# Altium footprint library TAUV-Lib.PcbLib: 56 footprints (part 3 of 4)
Each footprint in its own frame and in the unit in brackets; x right, y up, seen from the top. Pads: shape width x height; smd on the part's side, far side on the other; paste and mask are expansions set on the pad; w line width, h text height; cw(c..) or ccw(c..) is an arc to the next point about the centre after c.
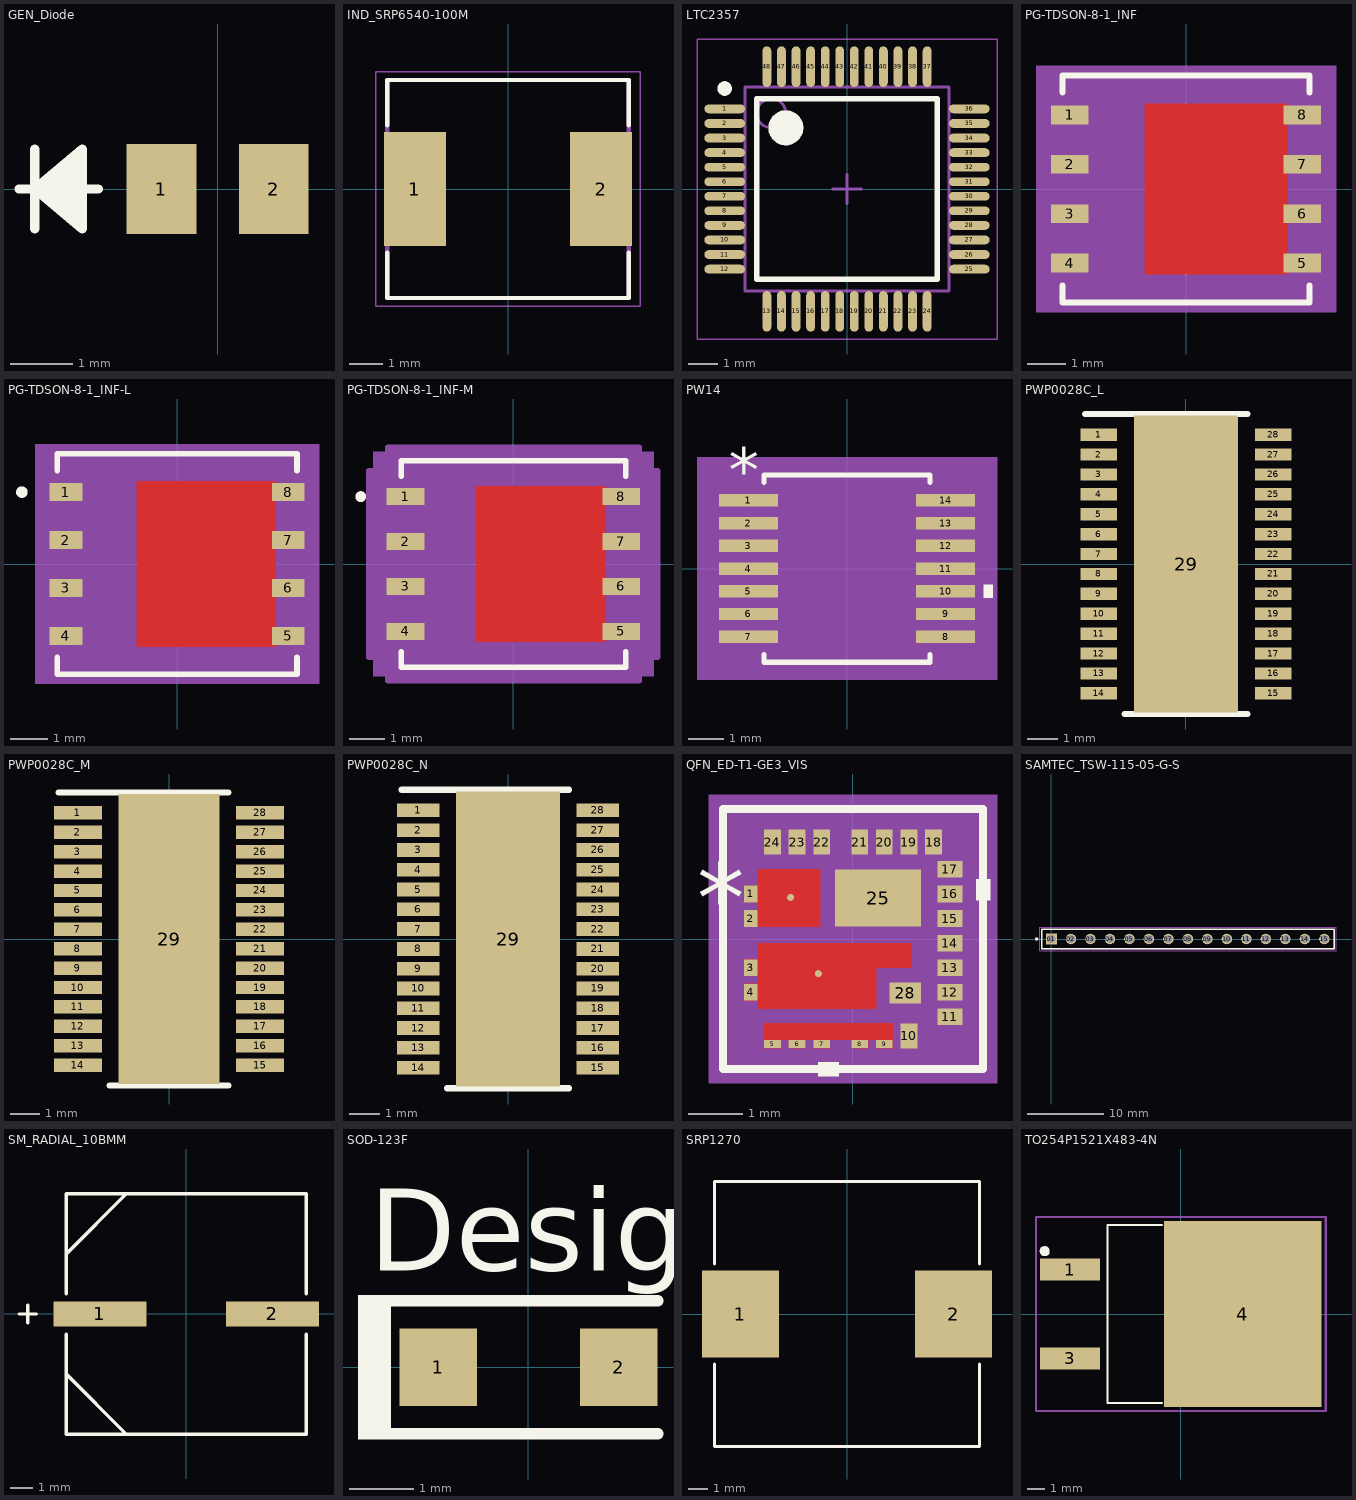
[diagram p2: the footprints below, top view; thin cyan lines are the x and y axes]

## GEN_Diode [mil]
pads (2):
  rect 44x57 smd: 1(-35.5,0) 2(35.5,0)
Top Overlay:
  lines w6: -125.5,0 -75.5,0 ; -115.5,-25 -115.5,25 ; -85.5,-20 -115.5,0 ; -85.5,-15 -115.5,0 ; -85.5,-10 -115.5,0 ; -85.5,-5 -115.5,0 ; -85.5,5 -115.5,0 ; -85.5,10 -115.5,0 ; -85.5,15 -115.5,0 ; -85.5,20 -115.5,0 ; -115.5,0 -85.5,25 -85.5,-25 -115.5,0
3D body: height 10, standoff 0, extent 0,0 10,10

## IND_SRP6540-100M [mm]
pads (2):
  rect 1.85x3.4 smd: 1(-2.775,0) 2(2.775,0)
Top Overlay:
  lines w0.127: -3.6,-1.9 -3.6,-3.25 3.6,-3.25 3.6,-1.9 ; -3.6,1.9 -3.6,3.25 3.6,3.25 3.6,1.9
Mechanical 4:
  lines w0.127: -3.6,-3.25 -3.6,3.25 ; -3.6,-3.25 3.6,-3.25 ; -3.6,-3.25 -3.6,3.25 ; -3.6,-3.25 3.6,-3.25 ; -3.6,3.25 3.6,3.25 ; -3.6,3.25 3.6,3.25 ; 3.6,-3.25 3.6,3.25 ; 3.6,-3.25 3.6,3.25
Mechanical 16:
  lines w0.05: -3.95,-3.5 -3.95,3.5 3.95,3.5 3.95,-3.5 -3.95,-3.5
3D body "SRP6540.stp": height 3.97, standoff -0.02, extent -3.594,-3.251 3.594,3.251

## LTC2357 [mm] "TSQFP, 48-Leads, Body 7.00x7.00mm, Pitch 0.50mm, IPC Medium Density"
height 1.6
pads (48):
  oval 1.4x0.3 smd: 1(-4.2,2.75) 2(-4.2,2.25) 3(-4.2,1.75) 4(-4.2,1.25) 5(-4.2,0.75) 6(-4.2,0.25) 7(-4.2,-0.25) 8(-4.2,-0.75) 9(-4.2,-1.25) 10(-4.2,-1.75) 11(-4.2,-2.25) 12(-4.2,-2.75) 25(4.2,-2.75) 26(4.2,-2.25) 27(4.2,-1.75) 28(4.2,-1.25) 29(4.2,-0.75) 30(4.2,-0.25) 31(4.2,0.25) 32(4.2,0.75) 33(4.2,1.25) 34(4.2,1.75) 35(4.2,2.25) 36(4.2,2.75)
  oval 0.3x1.4 smd: 13(-2.75,-4.2) 14(-2.25,-4.2) 15(-1.75,-4.2) 16(-1.25,-4.2) 17(-0.75,-4.2) 18(-0.25,-4.2) 19(0.25,-4.2) 20(0.75,-4.2) 21(1.25,-4.2) 22(1.75,-4.2) 23(2.25,-4.2) 24(2.75,-4.2) 37(2.75,4.2) 38(2.25,4.2) 39(1.75,4.2) 40(1.25,4.2) 41(0.75,4.2) 42(0.25,4.2) 43(-0.25,4.2) 44(-0.75,4.2) 45(-1.25,4.2) 46(-1.75,4.2) 47(-2.25,4.2) 48(-2.75,4.2)
Top Overlay:
  circle w0.6: c-2.1,2.1 r0.3
  circle w0.25: c-4.2,3.45 r0.125
  lines w0.2: -3.1,-3.1 3.1,-3.1 3.1,3.1 -3.1,3.1 -3.1,-3.1
Mechanical 13:
  circle w0.1: c-2.6,2.6 r0.5
  lines w0.1: -3.5,-3.5 3.5,-3.5 3.5,3.5 -3.5,3.5 -3.5,-3.5
Mechanical 15:
  lines w0.05: -5.15,-5.15 5.15,-5.15 5.15,5.15 -5.15,5.15 -5.15,-5.15
  lines w0.1: -0.5,0 0.5,0 ; 0,-0.5 0,0.5
3D body: height 1.6, standoff 0.05, extent -3.5,-3.5 3.5,3.5

## PG-TDSON-8-1_INF [mil]
pads (8):
  rect 38x19 smd paste+0 mask+0: 1(-118,75) 2(-118,25) 3(-118,-25) 4(-118,-75) 5(118,-75) 6(118,-25) 7(118,25) 8(118,75)
Top Layer:
  region: 103,-86.5 103,86.5 -42,86.5 -42,-86.5
Top Overlay:
  lines w6: -125,-97.6 -125,-115 125,-115 125,-97.6 ; -125,97.6 -125,115 125,115 125,97.6
Top Paste:
  region: 103,-86.5 103,86.5 -42,86.5 -42,-86.5
Top Solder:
  region: 103,-86.5 103,86.5 -42,86.5 -42,-86.5
Mechanical 5:
  region: 152,-125 -152,-125 -152,125 152,125
Mechanical 13:
  lines w0: -12,110 ccw(c0,110) 12,110
  lines w1: -120,-110 120,-110 120,110 -120,110 -120,-110
Mechanical 15:
  region: -130,-102 -147,-102 -147,102 -130,102 -130,120 130,120 130,102 147,102 147,-102 130,-102 130,-120 -130,-120
  lines w6: -147,-102 -147,102 -130,102 -130,120 130,120 130,102 147,102 147,-102 130,-102 130,-120 -130,-120 -130,-102 -147,-102
3D body "PG-TDSON-8-1_INF.step": height 43.11, standoff 0, extent -125,-110 125,110

## PG-TDSON-8-1_INF-L [mil]
pads (8):
  rect 34x19 smd paste+0 mask+0: 1(-116,75) 2(-116,25) 3(-116,-25) 4(-116,-75) 5(116,-75) 6(116,-25) 7(116,25) 8(116,75)
Top Layer:
  region: 103,-86.5 103,86.5 -42,86.5 -42,-86.5
Top Overlay:
  circle w6: c-162,75 r3
  lines w6: -125,-97.6 -125,-115 125,-115 125,-97.6 ; -125,97.6 -125,115 125,115 125,97.6
Top Paste:
  region: 103,-86.5 103,86.5 -42,86.5 -42,-86.5
Top Solder:
  region: 103,-86.5 103,86.5 -42,86.5 -42,-86.5
Mechanical 5:
  region: 148,-125 -148,-125 -148,125 148,125
Mechanical 13:
  circle w0: c-99,75 r3
  lines w0: -12,110 ccw(c0,110) 12,110
  lines w1: -120,-110 120,-110 120,110 -120,110 -120,-110
Mechanical 15:
  region: -124,-100.8 -137,-100.8 -137,100.8 -124,100.8 -124,114 124,114 124,100.8 137,100.8 137,-100.8 124,-100.8 124,-114 -124,-114
  lines w6: -137,-100.8 -137,100.8 -124,100.8 -124,114 124,114 124,100.8 137,100.8 137,-100.8 124,-100.8 124,-114 -124,-114 -124,-100.8 -137,-100.8
3D body "PG-TDSON-8-1_INF.step": height 43.11, standoff 0, extent -125,-110 125,110

## PG-TDSON-8-1_INF-M [mil]
pads (8):
  rect 42x19 smd paste+0 mask+0: 1(-120,75) 2(-120,25) 3(-120,-25) 4(-120,-75) 5(120,-75) 6(120,-25) 7(120,25) 8(120,75)
Top Layer:
  region: 103,-86.5 103,86.5 -42,86.5 -42,-86.5
Top Overlay:
  circle w6: c-170,75 r3
  lines w6: -125,-97.6 -125,-115 125,-115 125,-97.6 ; -125,97.6 -125,115 125,115 125,97.6
Top Paste:
  region: 103,-86.5 103,86.5 -42,86.5 -42,-86.5
Top Solder:
  region: 103,-86.5 103,86.5 -42,86.5 -42,-86.5
Mechanical 5:
  region: 156,-125 -156,-125 -156,125 156,125
Mechanical 13:
  circle w0: c-99,75 r3
  lines w0: -12,110 ccw(c0,110) 12,110
  lines w1: -120,-110 -120,110 120,110 120,-110 -120,-110
Mechanical 15:
  region: -140,-104 -161,-104 -161,104 -140,104 -140,130 140,130 140,104 161,104 161,-104 140,-104 140,-130 -140,-130
  lines w6: -161,-104 -140,-104 -140,-130 140,-130 140,-104 161,-104 161,104 140,104 140,130 -140,130 -140,104 -161,104 -161,-104
3D body "PG-TDSON-8-1_INF.step": height 43.11, standoff 0, extent -125,-110 125,110

## PW14 [mil]
pads (14):
  rect 66x14 smd paste+0 mask+0: 1(-111,76.77) 2(-111,51.18) 3(-111,25.59) 4(-111,0) 5(-111,-25.59) 6(-111,-51.18) 7(-111,-76.77) 8(111,-76.77) 9(111,-51.18) 10(111,-25.59) 11(111,0) 12(111,25.59) 13(111,51.18) 14(111,76.77)
Top Overlay:
  region: 154,-18.09 164,-18.09 164,-33.09 154,-33.09
  lines w6: -93.5,-96.87 -93.5,-105.5 93.5,-105.5 93.5,-96.87 ; -93.5,96.87 -93.5,105.5 93.5,105.5 93.5,96.87
  text "*" at -133.5,85.77 h50
Mechanical 5:
  region: 169,-125.5 -169,-125.5 -169,125.5 169,125.5
Mechanical 13:
  lines w0: -12,100.5 ccw(c0,100.5) 12,100.5
  lines w1: -130,-82.77 -88.5,-82.77 -88.5,-70.77 -130,-70.77 -130,-82.77 ; -130,-57.18 -88.5,-57.18 -88.5,-45.18 -130,-45.18 -130,-57.18 ; -130,-31.59 -88.5,-31.59 -88.5,-19.59 -130,-19.59 -130,-31.59 ; -130,-6 -88.5,-6 -88.5,6 -130,6 -130,-6 ; -130,19.59 -88.5,19.59 -88.5,31.59 -130,31.59 -130,19.59 ; -130,45.18 -88.5,45.18 -88.5,57.18 -130,57.18 -130,45.18 ; -130,70.77 -88.5,70.77 -88.5,82.77 -130,82.77 -130,70.77 ; -88.5,-100.5 -88.5,100.5 88.5,100.5 88.5,-100.5 -88.5,-100.5 ; 88.5,-82.77 130,-82.77 130,-70.77 88.5,-70.77 88.5,-82.77 ; 88.5,-57.18 130,-57.18 130,-45.18 88.5,-45.18 88.5,-57.18 ; 88.5,-31.59 130,-31.59 130,-19.59 88.5,-19.59 88.5,-31.59 ; 88.5,-6 130,-6 130,6 88.5,6 88.5,-6 ; 88.5,19.59 130,19.59 130,31.59 88.5,31.59 88.5,19.59 ; 88.5,45.18 130,45.18 130,57.18 88.5,57.18 88.5,45.18 ; 88.5,70.77 130,70.77 130,82.77 88.5,82.77 88.5,70.77
  text "*" at -86,47.5 h50
Mechanical 15:
  region: -98.5,-94.27 -154,-94.27 -154,93.27 -98.5,93.27 -98.5,110 98.5,110 98.5,93.27 154,93.27 154,-94.27 98.5,-94.27 98.5,-111 -98.5,-111
  lines w6: -154,-93.77 -98.5,-93.77 -98.5,-110.5 98.5,-110.5 98.5,-93.77 115,-93.77 115,93.77 98.5,93.77 98.5,110.5 -98.5,110.5 -98.5,93.77 -154,93.77 -154,-93.77
3D body "PW14.step": height 47.09, standoff 0, extent -129.99,-100.51 130.01,100.52

## PWP0028C_L [mm]
pads (29):
  rect 1.2x0.4 smd paste+0 mask+0: 1(-2.85,4.225) 2(-2.85,3.575) 3(-2.85,2.925) 4(-2.85,2.275) 5(-2.85,1.625) 6(-2.85,0.975) 7(-2.85,0.325) 8(-2.85,-0.325) 9(-2.85,-0.975) 10(-2.85,-1.625) 11(-2.85,-2.275) 12(-2.85,-2.925) 13(-2.85,-3.575) 14(-2.85,-4.225) 15(2.85,-4.225) 16(2.85,-3.575) 17(2.85,-2.925) 18(2.85,-2.275) 19(2.85,-1.625) 20(2.85,-0.975) 21(2.85,-0.325) 22(2.85,0.325) 23(2.85,0.975) 24(2.85,1.625) 25(2.85,2.275) 26(2.85,2.925) 27(2.85,3.575) 28(2.85,4.225)
  rect 3.4x9.7 smd paste-1.7 mask-1.702: 29(0,0)
Top Overlay:
  lines w0.2: -3.3,4.9 2,4.9 ; -2,-4.9 2,-4.9
Top Paste:
  region: -1.549,-2.553 -1.55,-2.544 -1.55,2.544 -1.549,2.553 -1.546,2.561 -1.542,2.569 -1.536,2.576 -1.529,2.582 -1.521,2.586 -1.513,2.589 -1.503,2.59 1.504,2.59 1.513,2.589 1.521,2.586 1.529,2.582 1.536,2.576 1.542,2.569 1.546,2.561 1.549,2.553 1.55,2.544 1.55,-2.544 1.549,-2.553 1.546,-2.561 1.542,-2.569 1.536,-2.576 1.529,-2.582 1.521,-2.586 1.513,-2.589 1.504,-2.59 -1.503,-2.59 -1.513,-2.589 -1.521,-2.586 -1.529,-2.582 -1.536,-2.576 -1.542,-2.569 -1.546,-2.561
Top Solder:
  region: -1.549,-2.553 -1.55,-2.544 -1.55,2.544 -1.549,2.553 -1.546,2.561 -1.542,2.569 -1.536,2.576 -1.529,2.582 -1.521,2.586 -1.513,2.589 -1.503,2.59 1.504,2.59 1.513,2.589 1.521,2.586 1.529,2.582 1.536,2.576 1.542,2.569 1.546,2.561 1.549,2.553 1.55,2.544 1.55,-2.544 1.549,-2.553 1.546,-2.561 1.542,-2.569 1.536,-2.576 1.529,-2.582 1.521,-2.586 1.513,-2.589 1.504,-2.59 -1.503,-2.59 -1.513,-2.589 -1.521,-2.586 -1.529,-2.582 -1.536,-2.576 -1.542,-2.569 -1.546,-2.561
3D body: height 0.25, standoff 0, extent 0,0 0.254,0.254

## PWP0028C_M [mm]
pads (29):
  rect 1.6x0.45 smd paste+0 mask+0: 1(-3.05,4.225) 2(-3.05,3.575) 3(-3.05,2.925) 4(-3.05,2.275) 5(-3.05,1.625) 6(-3.05,0.975) 7(-3.05,0.325) 8(-3.05,-0.325) 9(-3.05,-0.975) 10(-3.05,-1.625) 11(-3.05,-2.275) 12(-3.05,-2.925) 13(-3.05,-3.575) 14(-3.05,-4.225) 15(3.05,-4.225) 16(3.05,-3.575) 17(3.05,-2.925) 18(3.05,-2.275) 19(3.05,-1.625) 20(3.05,-0.975) 21(3.05,-0.325) 22(3.05,0.325) 23(3.05,0.975) 24(3.05,1.625) 25(3.05,2.275) 26(3.05,2.925) 27(3.05,3.575) 28(3.05,4.225)
  rect 3.4x9.7 smd paste-1.7 mask-1.702: 29(0,0)
Top Overlay:
  lines w0.2: -3.7,4.9 2,4.9 ; -2,-4.9 2,-4.9
Top Paste:
  region: -1.549,-2.553 -1.55,-2.544 -1.55,2.544 -1.549,2.553 -1.546,2.561 -1.542,2.569 -1.536,2.576 -1.529,2.582 -1.521,2.586 -1.513,2.589 -1.503,2.59 1.503,2.59 1.513,2.589 1.521,2.586 1.529,2.582 1.536,2.576 1.542,2.569 1.546,2.561 1.549,2.553 1.55,2.544 1.55,-2.544 1.549,-2.553 1.546,-2.561 1.542,-2.569 1.536,-2.576 1.529,-2.582 1.521,-2.586 1.513,-2.589 1.503,-2.59 -1.503,-2.59 -1.513,-2.589 -1.521,-2.586 -1.529,-2.582 -1.536,-2.576 -1.542,-2.569 -1.546,-2.561
Top Solder:
  region: -1.549,-2.553 -1.55,-2.544 -1.55,2.544 -1.549,2.553 -1.546,2.561 -1.542,2.569 -1.536,2.576 -1.529,2.582 -1.521,2.586 -1.513,2.589 -1.503,2.59 1.503,2.59 1.513,2.589 1.521,2.586 1.529,2.582 1.536,2.576 1.542,2.569 1.546,2.561 1.549,2.553 1.55,2.544 1.55,-2.544 1.549,-2.553 1.546,-2.561 1.542,-2.569 1.536,-2.576 1.529,-2.582 1.521,-2.586 1.513,-2.589 1.503,-2.59 -1.503,-2.59 -1.513,-2.589 -1.521,-2.586 -1.529,-2.582 -1.536,-2.576 -1.542,-2.569 -1.546,-2.561
3D body: height 0.25, standoff 0, extent 0,0 0.254,0.254

## PWP0028C_N [mm]
pads (29):
  rect 1.4x0.45 smd paste+0 mask+0: 1(-2.95,4.225) 2(-2.95,3.575) 3(-2.95,2.925) 4(-2.95,2.275) 5(-2.95,1.625) 6(-2.95,0.975) 7(-2.95,0.325) 8(-2.95,-0.325) 9(-2.95,-0.975) 10(-2.95,-1.625) 11(-2.95,-2.275) 12(-2.95,-2.925) 13(-2.95,-3.575) 14(-2.95,-4.225) 15(2.95,-4.225) 16(2.95,-3.575) 17(2.95,-2.925) 18(2.95,-2.275) 19(2.95,-1.625) 20(2.95,-0.975) 21(2.95,-0.325) 22(2.95,0.325) 23(2.95,0.975) 24(2.95,1.625) 25(2.95,2.275) 26(2.95,2.925) 27(2.95,3.575) 28(2.95,4.225)
  rect 3.4x9.7 smd paste-1.7 mask-1.702: 29(0,0)
Top Overlay:
  lines w0.2: -3.5,4.9 2,4.9 ; -2,-4.9 2,-4.9
Top Paste:
  region: -1.549,-2.553 -1.55,-2.544 -1.55,2.544 -1.549,2.553 -1.546,2.561 -1.542,2.569 -1.536,2.576 -1.529,2.582 -1.521,2.586 -1.513,2.589 -1.503,2.59 1.503,2.59 1.513,2.589 1.521,2.586 1.529,2.582 1.536,2.576 1.542,2.569 1.546,2.561 1.549,2.553 1.55,2.544 1.55,-2.544 1.549,-2.553 1.546,-2.561 1.542,-2.569 1.536,-2.576 1.529,-2.582 1.521,-2.586 1.513,-2.589 1.503,-2.59 -1.503,-2.59 -1.513,-2.589 -1.521,-2.586 -1.529,-2.582 -1.536,-2.576 -1.542,-2.569 -1.546,-2.561
Top Solder:
  region: -1.549,-2.553 -1.55,-2.544 -1.55,2.544 -1.549,2.553 -1.546,2.561 -1.542,2.569 -1.536,2.576 -1.529,2.582 -1.521,2.586 -1.513,2.589 -1.503,2.59 1.503,2.59 1.513,2.589 1.521,2.586 1.529,2.582 1.536,2.576 1.542,2.569 1.546,2.561 1.549,2.553 1.55,2.544 1.55,-2.544 1.549,-2.553 1.546,-2.561 1.542,-2.569 1.536,-2.576 1.529,-2.582 1.521,-2.586 1.513,-2.589 1.503,-2.59 -1.503,-2.59 -1.513,-2.589 -1.521,-2.586 -1.529,-2.582 -1.536,-2.576 -1.542,-2.569 -1.546,-2.561
3D body: height 0.25, standoff 0, extent 0,0 0.254,0.254

## QFN_ED-T1-GE3_VIS [mil]
pads (28):
  rect 10x12 smd: 1(-73.74,32.48) 2(-73.74,14.76) 3(-73.74,-20.67) 4(-73.74,-38.39)
  rect 12x6 smd paste+0 mask+0: 5(-58.08,-75.74) 6(-40.36,-75.74) 7(-22.64,-75.74) 8(4.92,-75.74) 9(22.64,-75.74)
  rect 12x18 smd paste-6 mask+0: 10(40.36,-69.88) 18(58.08,69.88) 19(40.36,69.88) 20(22.64,69.88) 21(4.92,69.88) 22(-22.64,69.88) 23(-40.36,69.88) 24(-58.08,69.88)
  rect 18x12 smd paste-6 mask+0: 11(69.88,-56.1) 12(69.88,-38.39) 13(69.88,-20.67) 14(69.88,-2.95) 15(69.88,14.76) 16(69.88,32.48) 17(69.88,50.2)
  rect 62x41.34 smd paste+0 mask+0: 25(18.07,29.53)
  round 5 smd: 26(-45,30) 27(-25,-25)
  rect 22.84x14.96 smd: 28(37.65,-38.98)
Top Layer:
  region: -52.08,-78.74 -64.08,-78.74 -64.08,-60.88 28.64,-60.88 28.64,-78.74 16.64,-78.74 16.64,-72.74 10.92,-72.74 10.92,-78.74 -1.08,-78.74 -1.08,-72.74 -16.64,-72.74 -16.64,-78.74 -28.64,-78.74 -28.64,-72.74 -34.36,-72.74 -34.36,-78.74 -46.36,-78.74 -46.36,-72.74 -52.08,-72.74
  region: -78.74,26.48 -78.74,38.48 -68.74,38.48 -68.74,50.2 -23.46,50.2 -23.46,8.86 -78.74,8.76 -78.74,20.76 -68.74,20.76 -68.74,26.48
  region: 16.89,-50.22 -68.74,-50.22 -68.74,-44.39 -78.74,-44.39 -78.74,-32.39 -68.74,-32.39 -68.74,-26.67 -78.74,-26.67 -78.74,-14.67 -68.74,-14.67 -68.74,-2.97 42.48,-2.97 42.48,-20.89 16.89,-20.89
Top Overlay:
  region: -10.22,-88.88 -25.22,-88.88 -25.22,-98.88 -10.22,-98.88
  region: 88.88,42.93 98.88,42.93 98.88,27.93 88.88,27.93
  lines w6: -93.74,-93.74 93.74,-93.74 93.74,93.74 -93.74,93.74 -93.74,-93.74
  text "*" at -112.5,5 h50
Top Paste:
  region: -68.74,-14.67 -68.74,-2.97 42.48,-2.97 42.48,-20.89 16.89,-20.89 16.89,-50.22 -68.74,-50.22 -68.74,-44.39 -78.74,-44.39 -78.74,-32.39 -68.74,-32.39 -68.74,-26.67 -78.74,-26.67 -78.74,-14.67
  region: -16.64,-78.74 -28.64,-78.74 -28.64,-72.74 -34.36,-72.74 -34.36,-78.74 -46.36,-78.74 -46.36,-72.74 -52.08,-72.74 -52.08,-78.74 -64.08,-78.74 -64.08,-60.88 28.64,-60.88 28.64,-78.74 16.64,-78.74 16.64,-72.74 10.92,-72.74 10.92,-78.74 -1.08,-78.74 -1.08,-72.74 -16.64,-72.74
  region: -78.74,26.48 -78.74,38.48 -68.74,38.48 -68.74,50.2 -23.46,50.2 -23.46,8.86 -78.74,8.76 -78.74,20.76 -68.74,20.76 -68.74,26.48
Top Solder:
  region: -78.74,26.48 -78.74,38.48 -68.74,38.48 -68.74,50.2 -23.46,50.2 -23.46,8.86 -78.74,8.76 -78.74,20.76 -68.74,20.76 -68.74,26.48
  region: 16.89,-50.22 -68.74,-50.22 -68.74,-44.39 -78.74,-44.39 -78.74,-32.39 -68.74,-32.39 -68.74,-26.67 -78.74,-26.67 -78.74,-14.67 -68.74,-14.67 -68.74,-2.97 42.48,-2.97 42.48,-20.89 16.89,-20.89
  region: -64.08,-78.74 -64.08,-60.88 28.64,-60.88 28.64,-78.74 16.64,-78.74 16.64,-72.74 10.92,-72.74 10.92,-78.74 -1.08,-78.74 -1.08,-72.74 -16.64,-72.74 -16.64,-78.74 -28.64,-78.74 -28.64,-72.74 -34.36,-72.74 -34.36,-78.74 -46.36,-78.74 -46.36,-72.74 -52.08,-72.74 -52.08,-78.74
Mechanical 5:
  region: 103.88,-103.88 -103.88,-103.88 -103.88,103.88 103.88,103.88
Mechanical 13:
  lines w1: -78.74,28.74 -28.74,78.74 ; -78.74,-78.74 78.74,-78.74 78.74,78.74 -78.74,78.74 -78.74,-78.74
  text "*" at -92.5,85 h50
Mechanical 15:
  region: -69.16,-88.74 -88.74,-88.74 -88.74,-69.15 -88.88,-69.15 -88.88,69.15 -88.74,69.15 -88.74,88.74 -69.16,88.74 -69.16,88.88 69.16,88.88 69.16,88.74 88.74,88.74 88.74,69.15 88.88,69.15 88.88,-69.15 88.74,-69.15 88.74,-88.74 69.16,-88.74 69.16,-88.88 -69.16,-88.88
  lines w6: -88.88,-69.15 -88.74,-69.15 -88.74,-88.74 -69.16,-88.74 -69.16,-88.88 69.16,-88.88 69.16,-88.74 88.74,-88.74 88.74,-69.15 88.88,-69.15 88.88,69.15 88.74,69.15 88.74,88.74 69.16,88.74 69.16,88.88 -69.16,88.88 -69.16,88.74 -88.74,88.74 -88.74,69.15 -88.88,69.15 -88.88,-69.15
3D body: height 10, standoff 0, extent 0,0 10,10

## SAMTEC_TSW-115-05-G-S [mm]
pads (15):
  rect 1.37x1.37 hole 1.02: 01(0,0)
  round 1.37 hole 1.02: 02(2.54,0) 03(5.08,0) 04(7.62,0) 05(10.16,0) 06(12.7,0) 07(15.24,0) 08(17.78,0) 09(20.32,0) 10(22.86,0) 11(25.4,0) 12(27.94,0) 13(30.48,0) 14(33.02,0) 15(35.56,0)
Top Overlay:
  circle w0.2: c-1.92,0 r0.1
  lines w0.2: -1.27,-1.27 36.83,-1.27 36.83,1.27 -1.27,1.27 -1.27,-1.27
Mechanical 13:
  circle w0.2: c-1.92,0 r0.1
  lines w0.1: -1.27,-1.27 36.83,-1.27 36.83,1.27 -1.27,1.27 -1.27,-1.27
Mechanical 15:
  lines w0.05: -1.52,-1.52 37.08,-1.52 37.08,1.52 -1.52,1.52 -1.52,-1.52

## SM_RADIAL_10BMM [mil]
pads (2):
  rect 160x43 smd: 1(-148.5,0) 2(148.5,0)
Top Overlay:
  lines w6: -287.5,0 -257.5,0 ; -272.5,-15 -272.5,15 ; -206.5,-103.25 -103.25,-206.5 ; -206.5,-34.6 -206.5,-206.5 206.5,-206.5 206.5,-34.6 ; -206.5,34.6 -206.5,206.5 206.5,206.5 206.5,34.6 ; -206.5,103.25 -103.25,206.5
3D body: height 10, standoff 0, extent 0,0 10,10

## SOD-123F [mm]
pads (2):
  rect 1.2x1.2 smd paste-0.05 mask+0.051: 1(-1.4,0) 2(1.4,0)
Top Overlay:
  region: -2.642,1.118 -2.642,-1.118 -2.134,-1.118 -2.134,1.118
  lines w0.178: -2.311,-1.029 2.007,-1.029 ; -2.311,1.029 2.007,1.029
  text "Designator9" at -2.464,1.499 h1.27
3D body: height 0.25, standoff 0, extent 0,0 0.254,0.254

## SRP1270 [mil]
pads (2):
  rect 157.5x177 smd: 1(-216.75,0) 2(216.75,0)
Top Overlay:
  lines w6: -269.5,-101.6 -269.5,-269.5 -254,-269.5 254,-269.5 269.5,-269.5 269.5,-101.6 ; -269.5,101.6 -269.5,269.5 -254,269.5 254,269.5 269.5,269.5 269.5,101.6
3D body: height 10, standoff 0, extent 0,0 10,10

## TO254P1521X483-4N [mil]
pads (3):
  rect 135x49.49 smd: 1(-250,100) 3(-250,-100)
  rect 355x420 smd: 4(140,0)
Top Overlay:
  circle w5: c-307.09,145.67 r3.94
  circle w5: c-311.02,145.67 r3.94
  circle w5: c-303.15,137.8 r3.94
  circle w5: c-307.09,141.73 r5.57
  circle w5: c-307.09,141.73 r8.8
  lines w5: -43.31,-200.79 -165.35,-200.79 -165.35,200.79 -43.31,200.79
Mechanical 15:
  lines w5: -326.77,-218.5 326.77,-218.5 326.77,218.5 -326.77,218.5 -326.77,-218.5